# EAGLE library part LP38692?-* (library Regulator)
LP38692-ADJ 1A Low Dropout CMOS Linear Regulator with Adjustable Output
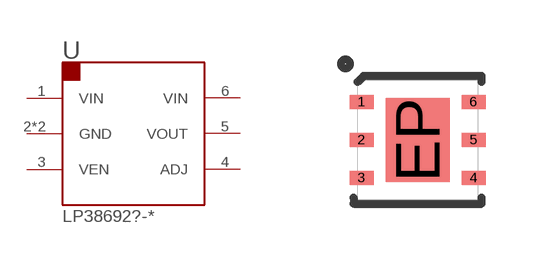
[diagram p3: symbol with the pads of 6-LLP-EP; footprint 6-LLP-EP]

Designator prefix U

## LP38692SD-ADJ (PARTNO: 01-100478-00; VOUT: 1.25v - 9v)  [6-LLP-EP]
1  VIN  pwr
2  GND  pwr
3  VEN  in
4  ADJ  in
5  VOUT  pwr
6  VIN  pwr
EP  GND  pwr

## Footprint 6-LLP-EP (pad centres in mm)
TI SDE06A
smd 0.6 x 0.35: 1 -1.4,0.95; 2 -1.4,0; 3 -1.4,-0.95; 4 1.4,-0.95; 5 1.4,0; 6 1.4,0.95
smd 1.6 x 2.1: EP 0,0